# Altium integrated library Analog Devices RF IF Direct Digital Synthesis.IntLib: 76 symbols (part 5 of 9)
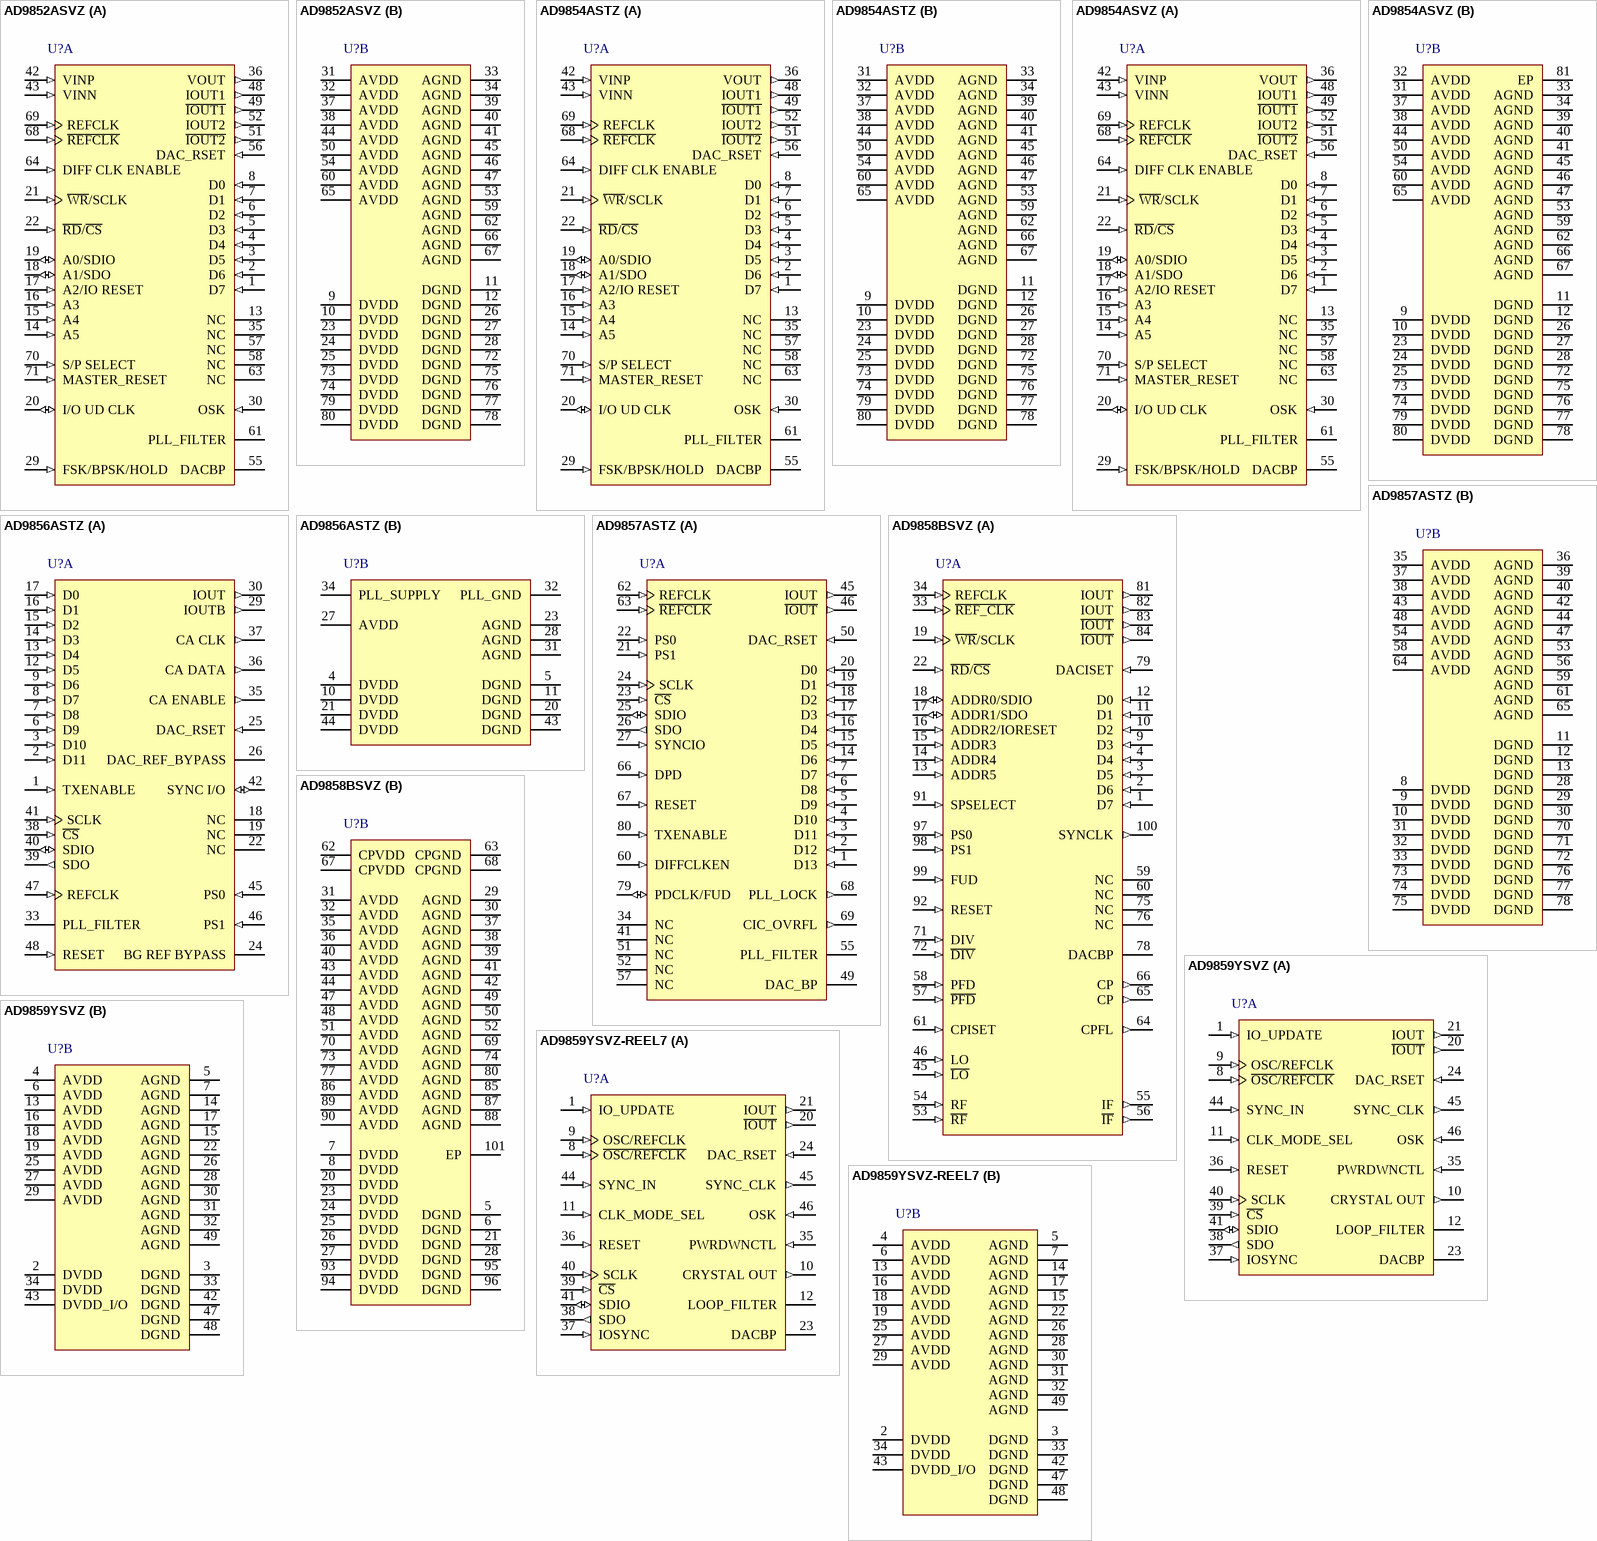
[diagram p9: symbols AD9852ASVZ to AD9859YSVZ-REEL7]

## AD9852ASVZ
designator U?
CMOS 300 MSPS Complete DDS, 12-Bit, SV-80-4, 90 Tray, Pb-Free; Master fclk: 300MHz; Resolution (Bits): 12bit; Tuning Word Width (bits): 48bit; Compliance Range (V): 1V; FS Iout (mA nom): 20mA; I Supply total (max): 922mA; DatasheetVersion: Rev. E; PackageVersion: 091506-A; PackageReference: SV-80-4; PackageDescription: 80-Lead Thin Quad Flat Package, Exposed Pad [TQFP_EP]; Code_JEDEC: MS-026-AEC-HD; ComponentLink1Description: Manufacturer URL; ComponentLink1URL: www.analog.com; ComponentLink2Description: Datasheet; ComponentLink2URL: http://www.analog.com/static/imported-files/data_sheets/AD9852.pdf; ComponentLink3Description: Package Specification; ComponentLink3URL: http://www.analog.com/static/imported-files/packages/PKG_PDF/TQFP_ED(SV)/SV_80_4.pdf
footprint ADI-SV-80-4_N (Thin QFP, 80-Leads, Body 14 x 14mm, Pitch 0.65mm, Thermal Pad 9.5x9.5mm, IPC Medium Density)
footprint ADI-SV-80-4_L (Thin QFP, 80-Leads, Body 14 x 14mm, Pitch 0.65mm, Thermal Pad 9.5x9.5mm, IPC High Density)
footprint ADI-SV-80-4_M (Thin QFP, 80-Leads, Body 14 x 14mm, Pitch 0.65mm, Thermal Pad 9.5x9.5mm, IPC Low Density)
part A pins: 1 D7 (in) "8-Bit Bidirectional Parallel Programming Data Inputs. Used only in parallel programming mode.", 2 D6 (in) "8-Bit Bidirectional Parallel Programming Data Inputs. Used only in parallel programming mode.", 3 D5 (in) "8-Bit Bidirectional Parallel Programming Data Inputs. Used only in parallel programming mode.", 4 D4 (in) "8-Bit Bidirectional Parallel Programming Data Inputs. Used only in parallel programming mode.", 5 D3 (in) "8-Bit Bidirectional Parallel Programming Data Inputs. Used only in parallel programming mode.", 6 D2 (in) "8-Bit Bidirectional Parallel Programming Data Inputs. Used only in parallel programming mode.", 7 D1 (in) "8-Bit Bidirectional Parallel Programming Data Inputs. Used only in parallel programming mode.", 8 D0 (in) "8-Bit Bidirectional Parallel Programming Data Inputs. Used only in parallel programming mode.", 13 NC "No Internal Connection.", 14 A5 (in) "Parallel Address Inputs for Program Registers (Part of 6-Bit Parallel Address Inputs for Program Register, A5:A0). Used only in parallel programming mode.", 15 A4 (in) "Parallel Address Inputs for Program Registers (Part of 6-Bit Parallel Address Inputs for Program Register, A5:A0). Used only in parallel programming mode.", 16 A3 (in) "Parallel Address Inputs for Program Registers (Part of 6-Bit Parallel Address Inputs for Program Register, A5:A0). Used only in parallel programming mode.", 17 A2/IO RESET (in) "Parallel Address Input for Program Registers (Part of 6-Bit Parallel Address Inputs for Program Register,A5:A0)/IO Reset. A2 is used only in parallel programming mode. [see datasheet]", 18 A1/SDO (io) "Parallel Address Input for Program Registers (Part of 6-Bit Parallel Address Inputs for Program Register, A5:A0)/Unidirectional Serial Data Output. [see datasheet]", 19 A0/SDIO (io) "Parallel Address Input for Program Registers (Part of 6-Bit Parallel Address Inputs for Program Register, A5:A0)/Bidirectional Serial Data Input/Output. [see datasheet]", 20 I/O UD CLK (io) "Bidirectional I/O Update Clock. Direction is selected in control register. If selected as an input, a rising edge transfers the contents of the I/O port buffers to the programming registers. [see datasheet]", 21 ~{WR}/SCLK (in) "Write Parallel Data to I/O Port Buffers. Shared function with SCLK. Serial clock signal associated with the serial programming bus. [see datasheet]", 22 ~{RD}/~{CS} (in) "Read Parallel Data from Programming Registers. Shared function with CS. Chip select signal associated with the serial programming bus. [see datasheet]", 29 FSK/BPSK/HOLD (in) "Multifunction Pin. Functions according to the mode of operation selected in the programming control register. If in the FSK mode, logic low selects F1 and logic high selects F2. [see datasheet]", 30 OSK (in) "Output Shaped Keying. Must first be selected in the programming control register to function. A logic high causes the cosine DAC outputs to ramp up from zero-scale to full-scale amplitude at a preprogrammed rate. [see datasheet]", 35 NC "No Internal Connection.", 36 VOUT (out) "Noninverted Output of the Internal High Speed Comparator. Designed to drive 10 dBm to 50  ohm loads as well as standard CMOS logic levels", 42 VINP (in) "Voltage Input Positive. The noninverting input of the internal high speed comparator.", 43 VINN (in) "Voltage Input Negative. The inverting input of the internal high speed comparator.", 48 IOUT1 (out) "Unipolar Current Output of the Cosine DAC (refer to Figure 3)", 49 ~{IOUT1} (out) "Complementary Unipolar Current Output of the Cosine DAC", 51 ~{IOUT2} (out) "Complementary Unipolar Current Output of the Cosine DAC", 52 IOUT2 (out) "Unipolar Current Output of the Control DAC", 55 DACBP "Common Bypass Capacitor Connection for Both DACs. A 0.01 uF chip capacitor from this pin to AVDD improves harmonic distortion and SFDR slightly. [see datasheet]", 56 DAC_RSET (in) "Common Connection for Both DACs. Used to set the full-scale output current. RSET = 39.9/ IOUT. Normal RSET range is from 8 k ohm (5 mA) to 2 k ohm (20 mA).", 57 NC "No Internal Connection.", 58 NC "No Internal Connection.", 61 PLL_FILTER "Connection for the External Zero-Compensation Network of the REFCLK Multiplier’s PLL Loop Filter. The zero-compensation network consists of a 1.3 k ohm resistor in series with a 0.01 uF capacitor. [see datasheet]", 63 NC "No Internal Connection.", 64 DIFF CLK ENABLE (in) "Differential REFCLK Enable. A high level of this pin enables the differential clock inputs, REFCLK and REFCLK (Pin 69 and Pin 68, respectively).", 68 ~{REFCLK} (in) "Complementary (180 degrees Out of Phase) Differential Clock Signal. User should tie this pin high or low when single-ended clock mode is selected. Same signal levels as REFCLK.", 69 REFCLK (in) "Single-Ended (CMOS Logic Levels Required) Reference Clock Input or One of Two Differential Clock Signals. In differential reference clock mode, both inputs can be C", 70 S/P SELECT (in) "Selects between serial programming mode (logic low) and parallel programming mode (logic high).", 71 MASTER_RESET (in) "Initializes the serial/parallel programming bus to prepare for user programming, and sets programming registers to a do-nothing state defined by the default values listed in Table 9. [see datasheet]"
part B pins: 9 DVDD (power) "Connections for the Digital Circuitry Supply Voltage. Nominally 3.3 V more positive than AGND and DGND.", 10 DVDD (power) "Connections for the Digital Circuitry Supply Voltage. Nominally 3.3 V more positive than AGND and DGND.", 11 DGND (power) "Connections for Digital Circuitry Ground Return. Same potential as AGND", 12 DGND (power) "Connections for Digital Circuitry Ground Return. Same potential as AGND", 23 DVDD (power) "Connections for the Digital Circuitry Supply Voltage. Nominally 3.3 V more positive than AGND and DGND.", 24 DVDD (power) "Connections for the Digital Circuitry Supply Voltage. Nominally 3.3 V more positive than AGND and DGND.", 25 DVDD (power) "Connections for the Digital Circuitry Supply Voltage. Nominally 3.3 V more positive than AGND and DGND.", 26 DGND (power) "Connections for Digital Circuitry Ground Return. Same potential as AGND", 27 DGND (power) "Connections for Digital Circuitry Ground Return. Same potential as AGND", 28 DGND (power) "Connections for Digital Circuitry Ground Return. Same potential as AGND", 31 AVDD (power) "Connections for the Analog Circuitry Supply Voltage. Nominally 3.3 V more positive than AGND and DGND", 32 AVDD (power) "Connections for the Analog Circuitry Supply Voltage. Nominally 3.3 V more positive than AGND and DGND", 33 AGND (power) "Connections for Analog Circuitry Ground Return. Same potential as DGND.", 34 AGND (power) "Connections for Analog Circuitry Ground Return. Same potential as DGND.", 37 AVDD (power) "Connections for the Analog Circuitry Supply Voltage. Nominally 3.3 V more positive than AGND and DGND", 38 AVDD (power) "Connections for the Analog Circuitry Supply Voltage. Nominally 3.3 V more positive than AGND and DGND", 39 AGND (power) "Connections for Analog Circuitry Ground Return. Same potential as DGND.", 40 AGND (power) "Connections for Analog Circuitry Ground Return. Same potential as DGND.", 41 AGND (power) "Connections for Analog Circuitry Ground Return. Same potential as DGND.", 44 AVDD (power) "Connections for the Analog Circuitry Supply Voltage. Nominally 3.3 V more positive than AGND and DGND", 45 AGND (power) "Connections for Analog Circuitry Ground Return. Same potential as DGND.", 46 AGND (power) "Connections for Analog Circuitry Ground Return. Same potential as DGND.", 47 AGND (power) "Connections for Analog Circuitry Ground Return. Same potential as DGND.", 50 AVDD (power) "Connections for the Analog Circuitry Supply Voltage. Nominally 3.3 V more positive than AGND and DGND", 53 AGND (power) "Connections for Analog Circuitry Ground Return. Same potential as DGND.", 54 AVDD (power) "Connections for the Analog Circuitry Supply Voltage. Nominally 3.3 V more positive than AGND and DGND", 59 AGND (power) "Connections for Analog Circuitry Ground Return. Same potential as DGND.", 60 AVDD (power) "Connections for the Analog Circuitry Supply Voltage. Nominally 3.3 V more positive than AGND and DGND", 62 AGND (power) "Connections for Analog Circuitry Ground Return. Same potential as DGND.", 65 AVDD (power) "Connections for the Analog Circuitry Supply Voltage. Nominally 3.3 V more positive than AGND and DGND", 66 AGND (power) "Connections for Analog Circuitry Ground Return. Same potential as DGND.", 67 AGND (power) "Connections for Analog Circuitry Ground Return. Same potential as DGND.", 72 DGND (power) "Connections for Digital Circuitry Ground Return. Same potential as AGND", 73 DVDD (power) "Connections for the Digital Circuitry Supply Voltage. Nominally 3.3 V more positive than AGND and DGND.", 74 DVDD (power) "Connections for the Digital Circuitry Supply Voltage. Nominally 3.3 V more positive than AGND and DGND.", 75 DGND (power) "Connections for Digital Circuitry Ground Return. Same potential as AGND", 76 DGND (power) "Connections for Digital Circuitry Ground Return. Same potential as AGND", 77 DGND (power) "Connections for Digital Circuitry Ground Return. Same potential as AGND", 78 DGND (power) "Connections for Digital Circuitry Ground Return. Same potential as AGND", 79 DVDD (power) "Connections for the Digital Circuitry Supply Voltage. Nominally 3.3 V more positive than AGND and DGND.", 80 DVDD (power) "Connections for the Digital Circuitry Supply Voltage. Nominally 3.3 V more positive than AGND and DGND."

## AD9854ASTZ
designator U?
CMOS 300 MSPS QuadratureComplete DDS, 12-Bit, ST-80-2, 90 Tray, Pb-Free; Master fclk: 300MHz; Resolution (Bits): 12bit; Tuning Word Width (bits): 48bit; Compliance Range (V): 1V; FS Iout (mA nom): 10mA; I Supply total (max): 1.21A; DatasheetVersion: Rev. E; PackageVersion: 10/5/2004; PackageReference: ST-80-2; PackageDescription: 80-Lead Low Profile Quad Flat Package [LQFP]; Code_JEDEC: MS-026-BEC; ComponentLink1Description: Manufacturer URL; ComponentLink1URL: www.analog.com; ComponentLink2Description: Datasheet; ComponentLink2URL: http://www.analog.com/static/imported-files/data_sheets/AD9854.pdf; ComponentLink3Description: Package Specification; ComponentLink3URL: http://www.analog.com/static/imported-files/packages/397423600143391396199409ST_80_2.pdf
footprint ADI-ST-80-2_N (Thin QFP, 80-Leads, Body 14 x 14mm, Pitch 0.65mm, IPC Medium Density)
footprint ADI-ST-80-2_L (Thin QFP, 80-Leads, Body 14 x 14mm, Pitch 0.65mm, IPC High Density)
footprint ADI-ST-80-2_M (Thin QFP, 80-Leads, Body 14 x 14mm, Pitch 0.65mm, IPC Low Density)
part A pins: 1 D7 (in) "8-Bit Bidirectional Parallel Programming Data Inputs. Used only in parallel programming mode.", 2 D6 (in) "8-Bit Bidirectional Parallel Programming Data Inputs. Used only in parallel programming mode.", 3 D5 (in) "8-Bit Bidirectional Parallel Programming Data Inputs. Used only in parallel programming mode.", 4 D4 (in) "8-Bit Bidirectional Parallel Programming Data Inputs. Used only in parallel programming mode.", 5 D3 (in) "8-Bit Bidirectional Parallel Programming Data Inputs. Used only in parallel programming mode.", 6 D2 (in) "8-Bit Bidirectional Parallel Programming Data Inputs. Used only in parallel programming mode.", 7 D1 (in) "8-Bit Bidirectional Parallel Programming Data Inputs. Used only in parallel programming mode.", 8 D0 (in) "8-Bit Bidirectional Parallel Programming Data Inputs. Used only in parallel programming mode.", 13 NC "No Internal Connection.", 14 A5 (in) "Parallel Address Inputs for Program Registers (Part of 6-Bit Parallel Address Inputs for Program Register, A5:A0). Used only in parallel programming mode.", 15 A4 (in) "Parallel Address Inputs for Program Registers (Part of 6-Bit Parallel Address Inputs for Program Register, A5:A0). Used only in parallel programming mode.", 16 A3 (in) "Parallel Address Inputs for Program Registers (Part of 6-Bit Parallel Address Inputs for Program Register, A5:A0). Used only in parallel programming mode.", 17 A2/IO RESET (in) "Parallel Address Input for Program Registers (Part of 6-Bit Parallel Address Inputs for Program Register, A5:A0)/IO Reset. A2 is used only in parallel programming mode. [see datasheet]", 18 A1/SDO (io) "Parallel Address Input for Program Registers (Part of 6-Bit Parallel Address Inputs for Program Register, A5:A0)/Unidirectional Serial Data Output. [see datasheet]", 19 A0/SDIO (io) "Parallel Address Input for Program Registers (Part of 6-Bit Parallel Address Inputs for Program Register, A5:A0)/Bidirectional Serial Data I/O. [see datasheet]", 20 I/O UD CLK (io) "Bidirectional I/O Update Clock. Direction is selected in control register. If this pin is selected as an input, a rising edge transfers the contents of the I/O port buffers to the programming registers. [see datasheet]", 21 ~{WR}/SCLK (in) "Write Parallel Data to I/O Port Buffers. Shared function with SCLK. Serial clock signal associated with the serial programming bus. [see datasheet]", 22 ~{RD}/~{CS} (in) "Read Parallel Data from Programming Registers. Shared function with CS. Chip-select signal associated with the serial programming bus. [see datasheet]", 29 FSK/BPSK/HOLD (in) "Multifunction pin according to the mode of operation selected in the programming control register. In FSK mode, logic low selects F1 and logic high selects F2. [see datasheet]", 30 OSK (in) "Output Shaped Keying. Must first be selected in the programming control register to function. A logic high causes the I and Q DAC outputs to ramp up from zero-scale to full-scale amplitude at a preprogrammed rate. [see datasheet]", 35 NC "No Internal Connection.", 36 VOUT (out) "Noninverted Output of the Internal High Speed Comparator. Designed to drive 10 dBm to 50  ohm load as well as standard CMOS logic levels.", 42 VINP (in) "Voltage Input Positive. The noninverting input of the internal high speed comparator.", 43 VINN (in) "Voltage Input Negative. The inverting input of the internal high speed comparator.", 48 IOUT1 (out) "Unipolar Current Output of I, or the Cosine DAC. (Refer to Figure 3.)", 49 ~{IOUT1} (out) "Complementary Unipolar Current Output of I, or the Cosine DAC.", 51 ~{IOUT2} (out) "Complementary Unipolar Current Output of Q, or the Sine DAC.", 52 IOUT2 (out) "Complementary Unipolar Current Output of Q, or the Sine DAC.", 55 DACBP "Common Bypass Capacitor Connection for Both I and Q DACs. A 0.01 uF chip capacitor from this pin to AVDD improves harmonic distortion and SFDR slightly. [see datasheet]", 56 DAC_RSET (in) "Common Connection for Both I and Q DACs. Used to set the full-scale output current. RSET = 39.9/IOUT. Normal RSET range is from 8 k ohm (5 mA) to 2 k ohm (20 mA)", 57 NC "No Internal Connection.", 58 NC "No Internal Connection.", 61 PLL_FILTER "Connection for the External Zero-Compensation Network of the REFCLK Multiplier’s PLL Loop Filter. The zero-compensation network consists of a 1.3 k ohm resistor in series with a 0.01 uF capacitor. [see datasheet]", 63 NC "No Internal Connection.", 64 DIFF CLK ENABLE (in) "Differential REFCLK Enable. A high level of this pin enables the differential clock inputs, REFCLK and REFCLK (Pin 69 and Pin 68, respectively).", 68 ~{REFC}~{LK} (in) "Complementary (180 degrees Out of Phase) Differential Clock Signal. User should tie this pin high or low when single-ended clock mode is selected. Same signal levels as REFCLK", 69 REFCLK (in) "Single-Ended Reference Clock Input (CMOS Logic Levels Required) or One of Two Differential Clock Signals. [see datasheet]", 70 S/P SELECT (in) "Selects serial programming mode (logic low) or parallel programming mode (logic high).", 71 MASTER_RESET (in) "Initializes the serial/parallel programming bus to prepare for user programming; sets programming registers to a do-nothing state defined by the default values listed in Table 8. [see datasheet]"
part B pins: 9 DVDD (power) "Connections for the Digital Circuitry Supply Voltage. Nominally 3.3 V more positive than AGND and DGND.", 10 DVDD (power) "Connections for the Digital Circuitry Supply Voltage. Nominally 3.3 V more positive than AGND and DGND.", 11 DGND (power) "Connections for the Digital Circuitry Ground Return. Same potential as AGND.", 12 DGND (power) "Connections for the Digital Circuitry Ground Return. Same potential as AGND.", 23 DVDD (power) "Connections for the Digital Circuitry Supply Voltage. Nominally 3.3 V more positive than AGND and DGND.", 24 DVDD (power) "Connections for the Digital Circuitry Supply Voltage. Nominally 3.3 V more positive than AGND and DGND.", 25 DVDD (power) "Connections for the Digital Circuitry Supply Voltage. Nominally 3.3 V more positive than AGND and DGND.", 26 DGND (power) "Connections for the Digital Circuitry Ground Return. Same potential as AGND.", 27 DGND (power) "Connections for the Digital Circuitry Ground Return. Same potential as AGND.", 28 DGND (power) "Connections for the Digital Circuitry Ground Return. Same potential as AGND.", 31 AVDD (power) "Connections for the Analog Circuitry Supply Voltage. Nominally 3.3 V more positive than AGND and DGND.", 32 AVDD (power) "Connections for the Analog Circuitry Supply Voltage. Nominally 3.3 V more positive than AGND and DGND.", 33 AGND (power) "Connections for Analog Circuitry Ground Return. Same potential as DGND.", 34 AGND (power) "Connections for Analog Circuitry Ground Return. Same potential as DGND.", 37 AVDD (power) "Connections for the Analog Circuitry Supply Voltage. Nominally 3.3 V more positive than AGND and DGND.", 38 AVDD (power) "Connections for the Analog Circuitry Supply Voltage. Nominally 3.3 V more positive than AGND and DGND.", 39 AGND (power) "Connections for Analog Circuitry Ground Return. Same potential as DGND.", 40 AGND (power) "Connections for Analog Circuitry Ground Return. Same potential as DGND.", 41 AGND (power) "Connections for Analog Circuitry Ground Return. Same potential as DGND.", 44 AVDD (power) "Connections for the Analog Circuitry Supply Voltage. Nominally 3.3 V more positive than AGND and DGND.", 45 AGND (power) "Connections for Analog Circuitry Ground Return. Same potential as DGND.", 46 AGND (power) "Connections for Analog Circuitry Ground Return. Same potential as DGND.", 47 AGND (power) "Connections for Analog Circuitry Ground Return. Same potential as DGND.", 50 AVDD (power) "Connections for the Analog Circuitry Supply Voltage. Nominally 3.3 V more positive than AGND and DGND.", 53 AGND (power) "Connections for Analog Circuitry Ground Return. Same potential as DGND.", 54 AVDD (power) "Connections for the Analog Circuitry Supply Voltage. Nominally 3.3 V more positive than AGND and DGND.", 59 AGND (power) "Connections for Analog Circuitry Ground Return. Same potential as DGND.", 60 AVDD (power) "Connections for the Analog Circuitry Supply Voltage. Nominally 3.3 V more positive than AGND and DGND.", 62 AGND (power) "Connections for Analog Circuitry Ground Return. Same potential as DGND.", 65 AVDD (power) "Connections for the Analog Circuitry Supply Voltage. Nominally 3.3 V more positive than AGND and DGND.", 66 AGND (power) "Connections for Analog Circuitry Ground Return. Same potential as DGND.", 67 AGND (power) "Connections for Analog Circuitry Ground Return. Same potential as DGND.", 72 DGND (power) "Connections for the Digital Circuitry Ground Return. Same potential as AGND.", 73 DVDD (power) "Connections for the Digital Circuitry Supply Voltage. Nominally 3.3 V more positive than AGND and DGND.", 74 DVDD (power) "Connections for the Digital Circuitry Supply Voltage. Nominally 3.3 V more positive than AGND and DGND.", 75 DGND (power) "Connections for the Digital Circuitry Ground Return. Same potential as AGND.", 76 DGND (power) "Connections for the Digital Circuitry Ground Return. Same potential as AGND.", 77 DGND (power) "Connections for the Digital Circuitry Ground Return. Same potential as AGND.", 78 DGND (power) "Connections for the Digital Circuitry Ground Return. Same potential as AGND.", 79 DVDD (power) "Connections for the Digital Circuitry Supply Voltage. Nominally 3.3 V more positive than AGND and DGND.", 80 DVDD (power) "Connections for the Digital Circuitry Supply Voltage. Nominally 3.3 V more positive than AGND and DGND."

## AD9854ASVZ
designator U?
CMOS 300 MSPS QuadratureComplete DDS, 12-Bit, SV-80-4, 90 Tray, Pb-Free; Master fclk: 300MHz; Resolution (Bits): 12bit; Tuning Word Width (bits): 48bit; Compliance Range (V): 1V; FS Iout (mA nom): 10mA; I Supply total (max): 1.21A; DatasheetVersion: Rev. E; PackageVersion: 091506-A; PackageReference: SV-80-4; PackageDescription: 80-Lead Thin Quad Flat Package, Exposed Pad [TQFP_EP]; Code_JEDEC: MS-026-AEC-HD; ComponentLink1Description: Manufacturer URL; ComponentLink1URL: www.analog.com; ComponentLink2Description: Datasheet; ComponentLink2URL: http://www.analog.com/static/imported-files/data_sheets/AD9854.pdf; ComponentLink3Description: Package Specification; ComponentLink3URL: http://www.analog.com/static/imported-files/packages/PKG_PDF/TQFP_ED(SV)/SV_80_4.pdf
footprint ADI-SV-80-4_N (Thin QFP, 80-Leads, Body 14 x 14mm, Pitch 0.65mm, Thermal Pad 9.5x9.5mm, IPC Medium Density)
footprint ADI-SV-80-4_L (Thin QFP, 80-Leads, Body 14 x 14mm, Pitch 0.65mm, Thermal Pad 9.5x9.5mm, IPC High Density)
footprint ADI-SV-80-4_M (Thin QFP, 80-Leads, Body 14 x 14mm, Pitch 0.65mm, Thermal Pad 9.5x9.5mm, IPC Low Density)
part A pins: 1 D7 (in) "8-Bit Bidirectional Parallel Programming Data Inputs. Used only in parallel programming mode.", 2 D6 (in) "8-Bit Bidirectional Parallel Programming Data Inputs. Used only in parallel programming mode.", 3 D5 (in) "8-Bit Bidirectional Parallel Programming Data Inputs. Used only in parallel programming mode.", 4 D4 (in) "8-Bit Bidirectional Parallel Programming Data Inputs. Used only in parallel programming mode.", 5 D3 (in) "8-Bit Bidirectional Parallel Programming Data Inputs. Used only in parallel programming mode.", 6 D2 (in) "8-Bit Bidirectional Parallel Programming Data Inputs. Used only in parallel programming mode.", 7 D1 (in) "8-Bit Bidirectional Parallel Programming Data Inputs. Used only in parallel programming mode.", 8 D0 (in) "8-Bit Bidirectional Parallel Programming Data Inputs. Used only in parallel programming mode.", 13 NC "No Internal Connection", 14 A5 (in) "Parallel Address Inputs for Program Registers (Part of 6-Bit Parallel Address Inputs for Program Register, A5:A0). Used only in parallel programming mode", 15 A4 (in) "Parallel Address Inputs for Program Registers (Part of 6-Bit Parallel Address Inputs for Program Register, A5:A0). Used only in parallel programming mode", 16 A3 (in) "Parallel Address Inputs for Program Registers (Part of 6-Bit Parallel Address Inputs for Program Register, A5:A0). Used only in parallel programming mode", 17 A2/IO RESET (in) "Parallel Address Input for Program Registers (Part of 6-Bit Parallel Address Inputs for Program Register, A5:A0)/IO Reset. A2 is used only in parallel programming mode. [see datasheet]", 18 A1/SDO (io) "Parallel Address Input for Program Registers (Part of 6-Bit Parallel Address Inputs for Program Register, A5:A0)/Unidirectional Serial Data Output. [see datasheet]", 19 A0/SDIO (io) "Parallel Address Input for Program Registers (Part of 6-Bit Parallel Address Inputs for Program Register, A5:A0)/Bidirectional Serial Data I/O. [see datasheet]", 20 I/O UD CLK (io) "Bidirectional I/O Update Clock. Direction is selected in control register. If this pin is selected as an input, a rising edge transfers the contents of the I/O port buffers to the programming registers. [see datasheet]", 21 ~{WR}/SCLK (in) "Write Parallel Data to I/O Port Buffers. Shared function with SCLK. Serial clock signal associated with the serial programming bus. [see datasheet]", 22 ~{RD}/~{CS} (in) "Read Parallel Data from Programming Registers. Shared function with CS. Chip-select signal associated with the serial programming bus. [see datasheet]", 29 FSK/BPSK/HOLD (in) "Multifunction pin according to the mode of operation selected in the programming control register. In FSK mode, logic low selects F1 and logic high selects F2. [see datasheet]", 30 OSK (in) "Output Shaped Keying. Must first be selected in the programming control register to function. A logic high causes the I and Q DAC outputs to ramp up from zero-scale to full-scale amplitude at a preprogrammed rate. [see datasheet]", 35 NC "No Internal Connection", 36 VOUT (out) "Noninverted Output of the Internal High Speed Comparator. Designed to drive 10 dBm to 50  ohm load as well as standard CMOS logic levels.", 42 VINP (in) "Voltage Input Positive. The noninverting input of the internal high speed comparator", 43 VINN (in) "Voltage Input Negative. The inverting input of the internal high speed comparator", 48 IOUT1 (out) "Unipolar Current Output of I, or the Cosine DAC. (Refer to Figure 3.)", 49 ~{IOUT1} (out) "Complementary Unipolar Current Output of I, or the Cosine DAC", 51 ~{IOUT2} (out) "Complementary Unipolar Current Output of Q, or the Sine DAC", 52 IOUT2 (out) "Complementary Unipolar Current Output of Q, or the Sine DAC", 55 DACBP "Common Bypass Capacitor Connection for Both I and Q DACs. A 0.01 uF chip capacitor from this pin to AVDD improves harmonic distortion and SFDR slightly. [see datasheet]", 56 DAC_RSET (in) "Common Connection for Both I and Q DACs. Used to set the full-scale output current. RSET = 39.9/IOUT. Normal RSET range is from 8 k ohm (5 mA) to 2 k ohm (20 mA)", 57 NC "No Internal Connection", 58 NC "No Internal Connection", 61 PLL_FILTER "Connection for the External Zero-Compensation Network of the REFCLK Multiplier’s PLL Loop Filter. The zero-compensation network consists of a 1.3 k ohm resistor in series with a 0.01 uF capacitor. [see datasheet]", 63 NC "No Internal Connection", 64 DIFF CLK ENABLE (in) "Differential REFCLK Enable. A high level of this pin enables the differential clock inputs, REFCLK and REFCLK (Pin 69 and Pin 68, respectively)", 68 ~{REF}~{CLK} (in) "Complementary (180 degrees Out of Phase) Differential Clock Signal. User should tie this pin high or low when single-ended clock mode is selected. Same signal levels as REFCLK", 69 REFCLK (in) "Single-Ended Reference Clock Input (CMOS Logic Levels Required) or One of Two Differential Clock Signals. [see datasheet]", 70 S/P SELECT (in) "Selects serial programming mode (logic low) or parallel programming mode (logic high)", 71 MASTER_RESET (in) "Initializes the serial/parallel programming bus to prepare for user programming; sets programming registers to a do-nothing state defined by the default values listed in Table 8. [see datasheet]"
part B pins: 9 DVDD (power) "Connections for the Digital Circuitry Supply Voltage. Nominally 3.3 V more positive than AGND and DGND", 10 DVDD (power) "Connections for the Digital Circuitry Supply Voltage. Nominally 3.3 V more positive than AGND and DGND", 11 DGND (power) "Connections for the Digital Circuitry Ground Return. Same potential as AGND", 12 DGND (power) "Connections for the Digital Circuitry Ground Return. Same potential as AGND", 23 DVDD (power) "Connections for the Digital Circuitry Supply Voltage. Nominally 3.3 V more positive than AGND and DGND", 24 DVDD (power) "Connections for the Digital Circuitry Supply Voltage. Nominally 3.3 V more positive than AGND and DGND", 25 DVDD (power) "Connections for the Digital Circuitry Supply Voltage. Nominally 3.3 V more positive than AGND and DGND", 26 DGND (power) "Connections for the Digital Circuitry Ground Return. Same potential as AGND", 27 DGND (power) "Connections for the Digital Circuitry Ground Return. Same potential as AGND", 28 DGND (power) "Connections for the Digital Circuitry Ground Return. Same potential as AGND", 31 AVDD (power) "Connections for the Analog Circuitry Supply Voltage. Nominally 3.3 V more positive than AGND and DGND", 32 AVDD (power) "Connections for the Analog Circuitry Supply Voltage. Nominally 3.3 V more positive than AGND and DGND", 33 AGND (power) "Connections for Analog Circuitry Ground Return. Same potential as DGND", 34 AGND (power) "Connections for Analog Circuitry Ground Return. Same potential as DGND", 37 AVDD (power) "Connections for the Analog Circuitry Supply Voltage. Nominally 3.3 V more positive than AGND and DGND", 38 AVDD (power) "Connections for the Analog Circuitry Supply Voltage. Nominally 3.3 V more positive than AGND and DGND", 39 AGND (power) "Connections for Analog Circuitry Ground Return. Same potential as DGND", 40 AGND (power) "Connections for Analog Circuitry Ground Return. Same potential as DGND", 41 AGND (power) "Connections for Analog Circuitry Ground Return. Same potential as DGND", 44 AVDD (power) "Connections for the Analog Circuitry Supply Voltage. Nominally 3.3 V more positive than AGND and DGND", 45 AGND (power) "Connections for Analog Circuitry Ground Return. Same potential as DGND", 46 AGND (power) "Connections for Analog Circuitry Ground Return. Same potential as DGND", 47 AGND (power) "Connections for Analog Circuitry Ground Return. Same potential as DGND", 50 AVDD (power) "Connections for the Analog Circuitry Supply Voltage. Nominally 3.3 V more positive than AGND and DGND", 53 AGND (power) "Connections for Analog Circuitry Ground Return. Same potential as DGND", 54 AVDD (power) "Connections for the Analog Circuitry Supply Voltage. Nominally 3.3 V more positive than AGND and DGND", 59 AGND (power) "Connections for Analog Circuitry Ground Return. Same potential as DGND", 60 AVDD (power) "Connections for the Analog Circuitry Supply Voltage. Nominally 3.3 V more positive than AGND and DGND", 62 AGND (power) "Connections for Analog Circuitry Ground Return. Same potential as DGND", 65 AVDD (power) "Connections for the Analog Circuitry Supply Voltage. Nominally 3.3 V more positive than AGND and DGND", 66 AGND (power) "Connections for Analog Circuitry Ground Return. Same potential as DGND", 67 AGND (power) "Connections for Analog Circuitry Ground Return. Same potential as DGND", 72 DGND (power) "Connections for the Digital Circuitry Ground Return. Same potential as AGND", 73 DVDD (power) "Connections for the Digital Circuitry Supply Voltage. Nominally 3.3 V more positive than AGND and DGND", 74 DVDD (power) "Connections for the Digital Circuitry Supply Voltage. Nominally 3.3 V more positive than AGND and DGND", 75 DGND (power) "Connections for the Digital Circuitry Ground Return. Same potential as AGND", 76 DGND (power) "Connections for the Digital Circuitry Ground Return. Same potential as AGND", 77 DGND (power) "Connections for the Digital Circuitry Ground Return. Same potential as AGND", 78 DGND (power) "Connections for the Digital Circuitry Ground Return. Same potential as AGND", 79 DVDD (power) "Connections for the Digital Circuitry Supply Voltage. Nominally 3.3 V more positive than AGND and DGND", 80 DVDD (power) "Connections for the Digital Circuitry Supply Voltage. Nominally 3.3 V more positive than AGND and DGND", 81 EP (power) "Exposed Pad"

## AD9856ASTZ
designator U?
CMOS 200 MHz Quadrature Digital Upconverter, 12-Bit, ST-48, 250 Tray, Pb-Free; Master fclk: 200MHz; Resolution (Bits): 12bit; I/O Interface: Parallel; REFCLK Multiplier: Yes; Compliance Range (V): 1.5V; FS Iout (mA nom): 10mA; I Supply total (max): 530mA; DatasheetVersion: Rev. C; PackageVersion: 051706-A; PackageReference: ST-48; PackageDescription: 48-Lead Low Profile Quad Flat Package [LQFP]; Tuning Word Width (bits): 12bit; Code_JEDEC: MS-026-BBC; ComponentLink1Description: Manufacturer URL; ComponentLink1URL: www.analog.com; ComponentLink2Description: Datasheet; ComponentLink2URL: http://www.analog.com/static/imported-files/data_sheets/AD9856.pdf; ComponentLink3Description: Package Specification; ComponentLink3URL: http://www.analog.com/static/imported-files/packages/PKG_PDF/LQFP%28ST%29/ST_48.pdf
footprint ADI-ST-48_N (Thin QFP, 48-Leads, Body 7x7mm, Pitch 0.5mm, IPC Medium Density)
footprint ADI-ST-48_L (Thin QFP, 48-Leads, Body 7x7mm, Pitch 0.5mm, IPC High Density)
footprint ADI-ST-48_M (Thin QFP, 48-Leads, Body 7x7mm, Pitch 0.5mm, IPC Low Density)
part A pins: 1 TXENABLE (in) "Input Pulse that Synchronizes the Data Stream", 2 D11 (in) "Input Data (Most Significant Bit)", 3 D10 (in) "Input Data", 6 D9 (in) "Input Data", 7 D8 (in) "Input Data", 8 D7 (in) "Input Data", 9 D6 (in) "Input Data", 12 D5 (in) "Input Data", 13 D4 (in) "Input Data", 14 D3 (in) "Input Data", 15 D2 (in) "Input Data", 16 D1 (in) "Input Data", 17 D0 (in) "Input Data (Least Significant Bit)", 18 NC "No Internal Connection", 19 NC "No Internal Connection", 22 NC "No Internal Connection", 24 BG REF BYPASS ""No External Connection", 25 DAC_RSET (in) ""RSET Resistor Connection", 26 DAC_REF_BYPASS "No External Connection", 29 IOUTB (out) "Complementary Analog Current Output of the DA", 30 IOUT (out) "True Analog Current Output of DA", 33 PLL_FILTER "PLL Loop Filter Connection", 35 CA ENABLE (out) "Cable Driver Amp Enable", 36 CA DATA (out) "Cable Driver Amp Data", 37 CA CLK (out) "Cable Driver Amp Clock", 38 ~{CS} (in) "Chip Select", 39 SDO (out) "Serial Data Output", 40 SDIO (io) "Serial Port I/O", 41 SCLK (in) "Serial Port Clock", 42 SYNC I/O (io) "Performs I/O Synchronization", 45 PS0 (in) "Profile Select 0", 46 PS1 (in) "Profile Select 1", 47 REFCLK (in) "Reference Clock Input", 48 RESET (in) "Master Reset"
part B pins: 4 DVDD (power) "Digital Supply Voltage", 5 DGND (power) "Digital Ground", 10 DVDD (power) "Digital Supply Voltage", 11 DGND (power) "Digital Ground", 20 DGND (power) "Digital Ground", 21 DVDD (power) "Digital Supply Voltage", 23 AGND (power) "Analog Ground", 27 AVDD (power) "Analog Supply Voltage", 28 AGND (power) "Analog Ground", 31 AGND (power) "Analog Ground", 32 PLL_GND (power) "PLL Ground", 34 PLL_SUPPLY (power) "PLL Voltage Supply", 43 DGND (power) "Digital Ground", 44 DVDD (power) "Digital Supply Voltage"

## AD9857ASTZ
designator U?
CMOS 200 MSPS 14-Bit Quadrature Digital Upconverter, Serial, ST-80-2, 90 Tray, Pb-Free; Master fclk: 200MHz; Resolution (Bits): 14bit; REFCLK Multiplier: Yes; Compliance Range (V): 1V; FS Iout (mA nom): 20mA; I Supply total (max): 615mA; DatasheetVersion: Rev. C; PackageVersion: 10/5/2004; PackageReference: ST-80-2; PackageDescription: 80-Lead Low Profile Quad Flat Package [LQFP]; I/O Interface: Serial; Code_JEDEC: MS-026-BEC; ComponentLink1Description: Manufacturer URL; ComponentLink1URL: www.analog.com; ComponentLink2Description: Datasheet; ComponentLink2URL: http://www.analog.com/static/imported-files/data_sheets/AD9857.pdf; ComponentLink3Description: Package Specification; ComponentLink3URL: http://www.analog.com/static/imported-files/packages/397423600143391396199409ST_80_2.pdf
footprint ADI-ST-80-2_N (Thin QFP, 80-Leads, Body 14 x 14mm, Pitch 0.65mm, IPC Medium Density)
footprint ADI-ST-80-2_L (Thin QFP, 80-Leads, Body 14 x 14mm, Pitch 0.65mm, IPC High Density)
footprint ADI-ST-80-2_M (Thin QFP, 80-Leads, Body 14 x 14mm, Pitch 0.65mm, IPC Low Density)
part A pins: 1 D13 (in) "14-Bit Parallel Data Bus for I and Q Data. The required numeric format is twos complement with D13 as the sign bit and D12–D0 as the magnitude bits. [see datasheet]", 2 D12 (in) "14-Bit Parallel Data Bus for I and Q Data. The required numeric format is twos complement with D13 as the sign bit and D12–D0 as the magnitude bits. [see datasheet]", 3 D11 (in) "14-Bit Parallel Data Bus for I and Q Data. The required numeric format is twos complement with D13 as the sign bit and D12–D0 as the magnitude bits. [see datasheet]", 4 D10 (in) "14-Bit Parallel Data Bus for I and Q Data. The required numeric format is twos complement with D13 as the sign bit and D12–D0 as the magnitude bits. [see datasheet]", 5 D9 (in) "14-Bit Parallel Data Bus for I and Q Data. The required numeric format is twos complement with D13 as the sign bit and D12–D0 as the magnitude bits. [see datasheet]", 6 D8 (in) "14-Bit Parallel Data Bus for I and Q Data. The required numeric format is twos complement with D13 as the sign bit and D12–D0 as the magnitude bits. [see datasheet]", 7 D7 (in) "14-Bit Parallel Data Bus for I and Q Data. The required numeric format is twos complement with D13 as the sign bit and D12–D0 as the magnitude bits. [see datasheet]", 14 D6 (in) "14-Bit Parallel Data Bus for I and Q Data. The required numeric format is twos complement with D13 as the sign bit and D12–D0 as the magnitude bits. [see datasheet]", 15 D5 (in) "14-Bit Parallel Data Bus for I and Q Data. The required numeric format is twos complement with D13 as the sign bit and D12–D0 as the magnitude bits. [see datasheet]", 16 D4 (in) "14-Bit Parallel Data Bus for I and Q Data. The required numeric format is twos complement with D13 as the sign bit and D12–D0 as the magnitude bits. [see datasheet]", 17 D3 (in) "14-Bit Parallel Data Bus for I and Q Data. The required numeric format is twos complement with D13 as the sign bit and D12–D0 as the magnitude bits. [see datasheet]", 18 D2 (in) "14-Bit Parallel Data Bus for I and Q Data. The required numeric format is twos complement with D13 as the sign bit and D12–D0 as the magnitude bits. [see datasheet]", 19 D1 (in) "14-Bit Parallel Data Bus for I and Q Data. The required numeric format is twos complement with D13 as the sign bit and D12–D0 as the magnitude bits. [see datasheet]", 20 D0 (in) "14-Bit Parallel Data Bus for I and Q Data. The required numeric format is twos complement with D13 as the sign bit and D12–D0 as the magnitude bits. [see datasheet]", 21 PS1 (in) "Profile Select Pin 1. The LSB of the two profile select pins. In conjunction with PS0, selects one of four profile configurations.", 22 PS0 (in) "Profile Select Pin 0. The MSB of the two profile select pins. In conjunction with P1, selects one of four profile configurations.", 23 ~{CS} (in) "Serial Port Chip Select pin. An active low signal that allows multiple devices to operate on a single serial bus", 24 SCLK (in) "Serial Port Data Clock pin. The serial data CLOCK for the serial port.", 25 SDIO (io) "Serial Port Input/Output Data pin. Bidirectional serial DATA pin for the serial port. This pin can be programmed to operate as a serial input only pin, via the control register bit 00h<7>. [see datasheet]", 26 SDO (out) "Serial Port Output Data pin. This pin serves as the serial data output pin when the SDIO pin is configured for serial input only mode. The default state is three-state.", 27 SYNCIO (in) "Serial Port Synchronization pin. Synchronizes the serial port without affecting the programmable register contents. [see datasheet]", 34 NC "No connect.", 41 NC "No connect.", 45 IOUT (out) "DAC Output pin. Normal DAC output current (analog).", 46 ~{IOUT} (out) "DAC Complementary Output pin. Complementary DAC output current (analog).", 49 DAC_BP "DAC Reference Bypass. Typically not used.", 50 DAC_RSET (in) "DAC Current Set pin. Sets DAC reference current.", 51 NC "No connect.", 52 NC "No connect.", 55 PLL_FILTER "PLL Filter. R-C network for PLL filter.", 57 NC "No connect.", 60 DIFFCLKEN (in) "Clock Mode Select pin. A logic high on this pin selects DIFFERENTIAL REFCLK input mode. A logic low selects the SINGLE-ENDED REFCLK input mode.", 62 REFCLK (in) "Reference Clock pin. In single-ended clock mode, this pin is the Reference Clock input. In differential clock mode, this pin is the positive clock input.", 63 ~{REFCLK} (in) "Reference Clock pin. In single-ended clock mode, this pin is the Reference Clock input. In differential clock mode, this pin is the positive clock input.", 66 DPD (in) "Digital Power-Down pin. Assertion of this pin shuts down the digital sections of the device to conserve power. However, if selected, the PLL remains operational.", 67 RESET (in) "Hardware RESET pin. An active high input that forces the device into a predefined state.", 68 PLL_LOCK (out) "PLL Lock pin. Active high output signifying, in real time, when PLL is in lock state.", 69 CIC_OVRFL (out) "CIC Overflow pin. Activity on this pin indicates that the CIC Filters are in “overflow” state. This pin is typically low unless a CIC overflow occurs.", 79 PDCLK/FUD (io) "Parallel Data Clock/Frequency Update pin. When not in single-tone mode, this pin is an output signal that should be used as a clock to synchronize the acceptance of the 14-bit parallel  data-words on Pins D13–D0. [see datasheet]", 80 TXENABLE (in) "When TxENABLE is asserted, the device processes the data through the I and Q data pathways; otherwise 0s are internally substituted for the I and Q data entering the signal path. [see datasheet]"
part B pins: 8 DVDD (power) "3.3 V Digital Power pin(s).", 9 DVDD (power) "3.3 V Digital Power pin(s).", 10 DVDD (power) "3.3 V Digital Power pin(s).", 11 DGND (power) "Digital Ground pin(s).", 12 DGND (power) "Digital Ground pin(s).", 13 DGND (power) "Digital Ground pin(s).", 28 DGND (power) "Digital Ground pin(s).", 29 DGND (power) "Digital Ground pin(s).", 30 DGND (power) "Digital Ground pin(s).", 31 DVDD (power) "3.3 V Digital Power pin(s).", 32 DVDD (power) "3.3 V Digital Power pin(s).", 33 DVDD (power) "3.3 V Digital Power pin(s).", 35 AVDD (power) "3.3 V Analog Power pin(s).", 36 AGND (power) "Analog Ground pin(s).", 37 AVDD (power) "3.3 V Analog Power pin(s).", 38 AVDD (power) "3.3 V Analog Power pin(s).", 39 AGND (power) "Analog Ground pin(s).", 40 AGND (power) "Analog Ground pin(s).", 42 AGND (power) "Analog Ground pin(s).", 43 AVDD (power) "3.3 V Analog Power pin(s).", 44 AGND (power) "Analog Ground pin(s).", 47 AGND (power) "Analog Ground pin(s).", 48 AVDD (power) "3.3 V Analog Power pin(s).", 53 AGND (power) "Analog Ground pin(s).", 54 AVDD (power) "3.3 V Analog Power pin(s).", 56 AGND (power) "Analog Ground pin(s).", 58 AVDD (power) "3.3 V Analog Power pin(s).", 59 AGND (power) "Analog Ground pin(s).", 61 AGND (power) "Analog Ground pin(s).", 64 AVDD (power) "3.3 V Analog Power pin(s).", 65 AGND (power) "Analog Ground pin(s).", 70 DGND (power) "Digital Ground pin(s).", 71 DGND (power) "Digital Ground pin(s).", 72 DGND (power) "Digital Ground pin(s).", 73 DVDD (power) "3.3 V Digital Power pin(s).", 74 DVDD (power) "3.3 V Digital Power pin(s).", 75 DVDD (power) "3.3 V Digital Power pin(s).", 76 DGND (power) "Digital Ground pin(s).", 77 DGND (power) "Digital Ground pin(s).", 78 DGND (power) "Digital Ground pin(s)."